# Altium footprint library CPU.PcbLib: 75 footprints (part 2 of 5)
Each footprint in its own frame and in the unit in brackets; x right, y up, seen from the top. Pads: shape width x height; smd on the part's side, far side on the other; paste and mask are expansions set on the pad; w line width, h text height; cw(c..) or ccw(c..) is an arc to the next point about the centre after c.
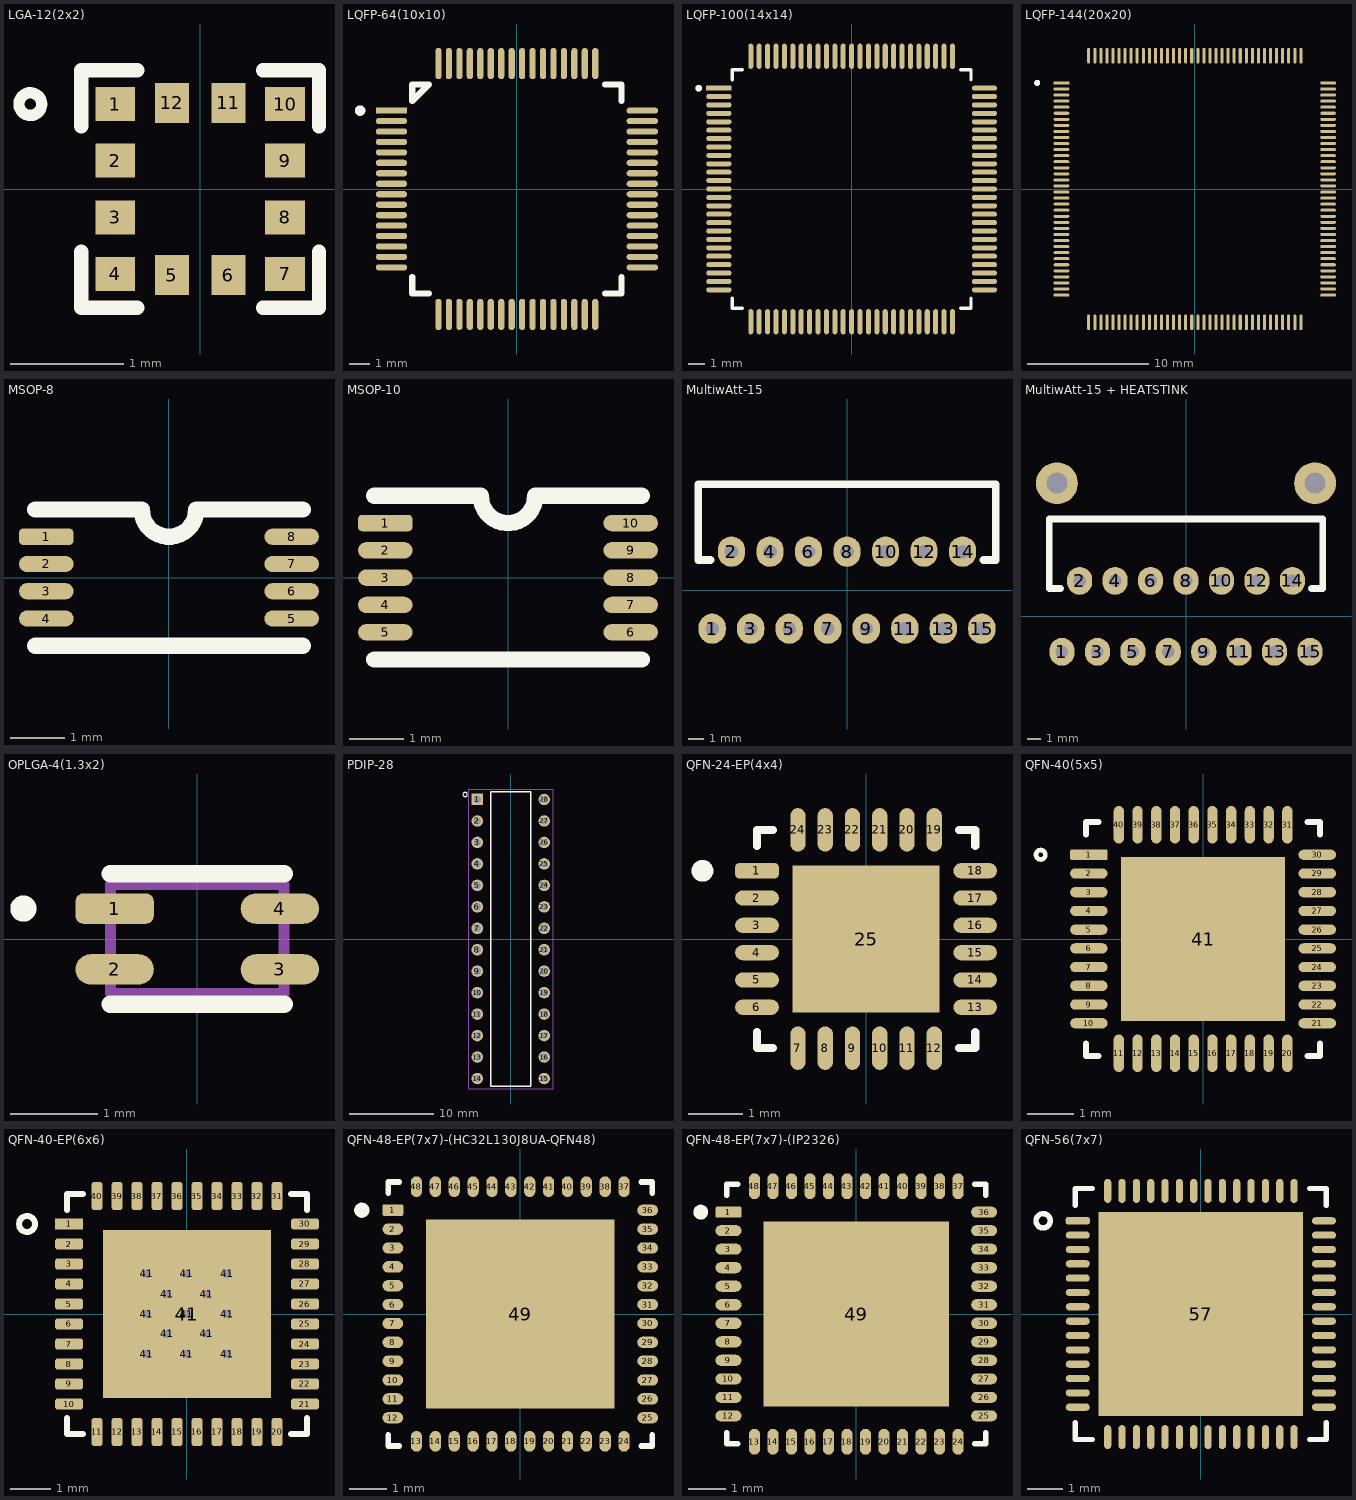
[diagram p1: the footprints below, top view; thin cyan lines are the x and y axes]

## LGA-12(2x2) [mm]
pads (12):
  rect 0.35x0.3 smd: 1(-0.75,0.75) 2(-0.75,0.25) 3(-0.75,-0.25) 4(-0.75,-0.75) 7(0.75,-0.75) 8(0.75,-0.25) 9(0.75,0.25) 10(0.75,0.75)
  rect 0.3x0.35 smd: 5(-0.25,-0.76) 6(0.25,-0.76) 11(0.25,0.76) 12(-0.25,0.76)
Top Overlay:
  circle w0.1: c-1.5,0.75 r0.1
  lines w0.127: -1.05,-0.555 -1.05,-1.05 -0.555,-1.05 ; -1.05,0.555 -1.05,1.05 -0.555,1.05 ; 0.555,-1.05 1.05,-1.05 1.05,-0.555 ; 0.555,1.05 1.05,1.05 1.05,0.555
3D:
  circle w0.1: c-0.75,0.75 r0.05
3D body "LGA-12(2x2).STEP": height 0.7, standoff 0, extent -1,-1 1,1

## LQFP-64(10x10) [mm]
pads (64):
  rrect25% 1.5x0.3 smd: 1(-6,3.75)
  oval 1.5x0.3 smd: 2(-6,3.25) 3(-6,2.75) 4(-6,2.25) 5(-6,1.75) 6(-6,1.25) 7(-6,0.75) 8(-6,0.25) 9(-6,-0.25) 10(-6,-0.75) 11(-6,-1.25) 12(-6,-1.75) 13(-6,-2.25) 14(-6,-2.75) 15(-6,-3.25) 16(-6,-3.75) 33(6,-3.75) 34(6,-3.25) 35(6,-2.75) 36(6,-2.25) 37(6,-1.75) 38(6,-1.25) 39(6,-0.75) 40(6,-0.25) 41(6,0.25) 42(6,0.75) 43(6,1.25) 44(6,1.75) 45(6,2.25) 46(6,2.75) 47(6,3.25) 48(6,3.75)
  oval 0.3x1.5 smd: 17(-3.75,-6) 18(-3.25,-6) 19(-2.75,-6) 20(-2.25,-6) 21(-1.75,-6) 22(-1.25,-6) 23(-0.75,-6) 24(-0.25,-6) 25(0.25,-6) 26(0.75,-6) 27(1.25,-6) 28(1.75,-6) 29(2.25,-6) 30(2.75,-6) 31(3.25,-6) 32(3.75,-6) 49(3.75,6) 50(3.25,6) 51(2.75,6) 52(2.25,6) 53(1.75,6) 54(1.25,6) 55(0.75,6) 56(0.25,6) 57(-0.25,6) 58(-0.75,6) 59(-1.25,6) 60(-1.75,6) 61(-2.25,6) 62(-2.75,6) 63(-3.25,6) 64(-3.75,6)
Top Overlay:
  circle w0.3: c-7.5,3.75 r0.1
  lines w0.3: -5,-4.21 -5,-5 -4.21,-5 ; 4.21,-5 5,-5 5,-4.21 ; 4.21,5 5,5 5,4.21 ; -5,4.21 -5,5 -4.21,5 -5,4.21
3D:
  circle w0.2: c-7.5,3.75 r0.1
3D body "step_temp.STEP": height 1.6, standoff 0, extent -6,-6 6,6

## LQFP-100(14x14) [mm]
pads (100):
  rrect7% 1.5x0.3 smd: 1(-7.9,6)
  oval 1.5x0.3 smd: 2(-7.9,5.5) 3(-7.9,5) 4(-7.9,4.5) 5(-7.9,4) 6(-7.9,3.5) 7(-7.9,3) 8(-7.9,2.5) 9(-7.9,2) 10(-7.9,1.5) 11(-7.9,1) 12(-7.9,0.5) 13(-7.9,0) 14(-7.9,-0.5) 15(-7.9,-1) 16(-7.9,-1.5) 17(-7.9,-2) 18(-7.9,-2.5) 19(-7.9,-3) 20(-7.9,-3.5) 21(-7.9,-4) 22(-7.9,-4.5) 23(-7.9,-5) 24(-7.9,-5.5) 25(-7.9,-6) 51(7.9,-6) 52(7.9,-5.5) 53(7.9,-5) 54(7.9,-4.5) 55(7.9,-4) 56(7.9,-3.5) 57(7.9,-3) 58(7.9,-2.5) 59(7.9,-2) 60(7.9,-1.5) 61(7.9,-1) 62(7.9,-0.5) 63(7.9,0) 64(7.9,0.5) 65(7.9,1) 66(7.9,1.5) 67(7.9,2) 68(7.9,2.5) 69(7.9,3) 70(7.9,3.5) 71(7.9,4) 72(7.9,4.5) 73(7.9,5) 74(7.9,5.5) 75(7.9,6)
  oval 0.3x1.5 smd: 26(-6,-7.9) 27(-5.5,-7.9) 28(-5,-7.9) 29(-4.5,-7.9) 30(-4,-7.9) 31(-3.5,-7.9) 32(-3,-7.9) 33(-2.5,-7.9) 34(-2,-7.9) 35(-1.5,-7.9) 36(-1,-7.9) 37(-0.5,-7.9) 38(0,-7.9) 39(0.5,-7.9) 40(1,-7.9) 41(1.5,-7.9) 42(2,-7.9) 43(2.5,-7.9) 44(3,-7.9) 45(3.5,-7.9) 46(4,-7.9) 47(4.5,-7.9) 48(5,-7.9) 49(5.5,-7.9) 50(6,-7.9) 76(6,7.9) 77(5.5,7.9) 78(5,7.9) 79(4.5,7.9) 80(4,7.9) 81(3.5,7.9) 82(3,7.9) 83(2.5,7.9) 84(2,7.9) 85(1.5,7.9) 86(1,7.9) 87(0.5,7.9) 88(0,7.9) 89(-0.5,7.9) 90(-1,7.9) 91(-1.5,7.9) 92(-2,7.9) 93(-2.5,7.9) 94(-3,7.9) 95(-3.5,7.9) 96(-4,7.9) 97(-4.5,7.9) 98(-5,7.9) 99(-5.5,7.9) 100(-6,7.9)
Top Overlay:
  circle w0.2: c-9.1,6 r0.1
  lines w0.2: -7.1,-6.5 -7.1,-7.1 -6.5,-7.1 ; -7.1,6.5 -7.1,7.1 -6.5,7.1 ; 6.5,-7.1 7.1,-7.1 7.1,-6.5 ; 6.5,7.1 7.1,7.1 7.1,6.5
3D:
  circle w0.2: c-9.1,6 r0.1
3D body "step_temp.STEP": height 1.63, standoff 0.03, extent -8,-8 8,8

## LQFP-144(20x20) [mm]
pads (144):
  rrect25% 1.3x0.25 smd: 1(-11,8.75)
  oval 1.3x0.25 smd: 2(-11,8.25) 3(-11,7.75) 4(-11,7.25) 5(-11,6.75) 6(-11,6.25) 7(-11,5.75) 8(-11,5.25) 9(-11,4.75) 10(-11,4.25) 11(-11,3.75) 12(-11,3.25) 13(-11,2.75) 14(-11,2.25) 15(-11,1.75) 16(-11,1.25) 17(-11,0.75) 18(-11,0.25) 19(-11,-0.25) 20(-11,-0.75) 21(-11,-1.25) 22(-11,-1.75) 23(-11,-2.25) 24(-11,-2.75) 25(-11,-3.25) 26(-11,-3.75) 27(-11,-4.25) 28(-11,-4.75) 29(-11,-5.25) 30(-11,-5.75) 31(-11,-6.25) 32(-11,-6.75) 33(-11,-7.25) 34(-11,-7.75) 35(-11,-8.25) 36(-11,-8.75) 73(11,-8.75) 74(11,-8.25) 75(11,-7.75) 76(11,-7.25) 77(11,-6.75) 78(11,-6.25) 79(11,-5.75) 80(11,-5.25) 81(11,-4.75) 82(11,-4.25) 83(11,-3.75) 84(11,-3.25) 85(11,-2.75) 86(11,-2.25) 87(11,-1.75) 88(11,-1.25) 89(11,-0.75) 90(11,-0.25) 91(11,0.25) 92(11,0.75) 93(11,1.25) 94(11,1.75) 95(11,2.25) 96(11,2.75) 97(11,3.25) 98(11,3.75) 99(11,4.25) 100(11,4.75) 101(11,5.25) 102(11,5.75) 103(11,6.25) 104(11,6.75) 105(11,7.25) 106(11,7.75) 107(11,8.25) 108(11,8.75)
  oval 0.25x1.3 smd: 37(-8.75,-11) 38(-8.25,-11) 39(-7.75,-11) 40(-7.25,-11) 41(-6.75,-11) 42(-6.25,-11) 43(-5.75,-11) 44(-5.25,-11) 45(-4.75,-11) 46(-4.25,-11) 47(-3.75,-11) 48(-3.25,-11) 49(-2.75,-11) 50(-2.25,-11) 51(-1.75,-11) 52(-1.25,-11) 53(-0.75,-11) 54(-0.25,-11) 55(0.25,-11) 56(0.75,-11) 57(1.25,-11) 58(1.75,-11) 59(2.25,-11) 60(2.75,-11) 61(3.25,-11) 62(3.75,-11) 63(4.25,-11) 64(4.75,-11) 65(5.25,-11) 66(5.75,-11) 67(6.25,-11) 68(6.75,-11) 69(7.25,-11) 70(7.75,-11) 71(8.25,-11) 72(8.75,-11) 109(8.75,11) 110(8.25,11) 111(7.75,11) 112(7.25,11) 113(6.75,11) 114(6.25,11) 115(5.75,11) 116(5.25,11) 117(4.75,11) 118(4.25,11) 119(3.75,11) 120(3.25,11) 121(2.75,11) 122(2.25,11) 123(1.75,11) 124(1.25,11) 125(0.75,11) 126(0.25,11) 127(-0.25,11) 128(-0.75,11) 129(-1.25,11) 130(-1.75,11) 131(-2.25,11) 132(-2.75,11) 133(-3.25,11) 134(-3.75,11) 135(-4.25,11) 136(-4.75,11) 137(-5.25,11) 138(-5.75,11) 139(-6.25,11) 140(-6.75,11) 141(-7.25,11) 142(-7.75,11) 143(-8.25,11) 144(-8.75,11)
Top Overlay:
  circle w0.3: c-13,8.75 r0.1
3D body "step_temp.STEP": height 1.6, standoff 0, extent -11,-11 11,11

## MSOP-8 [mm]
pads (8):
  rrect50% 1x0.3 smd mask+0.05: 1(-2.25,0.75)
  oval 1x0.3 smd mask+0.05: 2(-2.25,0.25) 3(-2.25,-0.25) 4(-2.25,-0.75) 5(2.25,-0.75) 6(2.25,-0.25) 7(2.25,0.25) 8(2.25,0.75)
Top Overlay:
  lines w0.3: -2.45,-1.25 2.45,-1.25 ; -2.45,1.25 -0.5,1.25 ccw(c0,1.25) 0.5,1.25 2.45,1.25
3D body "MSOP8-3-0.5mm.STEP": height 1.1, standoff 0, extent -2.45,-1.25 2.45,1.25

## MSOP-10 [mm]
pads (10):
  rrect50% 1x0.3 smd mask+0.05: 1(-2.25,1)
  oval 1x0.3 smd mask+0.05: 2(-2.25,0.5) 3(-2.25,0) 4(-2.25,-0.5) 5(-2.25,-1) 6(2.25,-1) 7(2.25,-0.5) 8(2.25,0) 9(2.25,0.5) 10(2.25,1)
Top Overlay:
  lines w0.3: -2.45,-1.5 2.45,-1.5 ; -2.45,1.5 -0.5,1.5 ccw(c0,1.5) 0.5,1.5 2.45,1.5
3D body "step_temp.STEP": height 1, standoff 0, extent -2.45,-1.5 2.45,1.5

## MultiwAtt-15 [mm]
pads (15):
  oval 1.8x2 hole 0.9 mask+0.2: 1(-8.89,-2.54) 2(-7.62,2.54) 3(-6.35,-2.54) 4(-5.08,2.54) 5(-3.81,-2.54) 6(-2.54,2.54) 7(-1.27,-2.54) 8(0,2.54) 9(1.27,-2.54) 10(2.54,2.54) 11(3.81,-2.54) 12(5.08,2.54) 13(6.35,-2.54) 14(7.62,2.54) 15(8.89,-2.54)
Top Overlay:
  lines w0.5: -9,1.99 -9.8,1.99 -9.8,6.99 9.8,6.99 9.8,1.99 9,1.99
3D body "MULTIWATT-15_Normal_LStrandard_rev1.1.STEP": height 21, standoff -2.02, extent -9.9,-2.935 9.9,6.99

## MultiwAtt-15 + HEATSTINK [mm]
pads (17):
  oval 1.8x2 hole 0.9 mask+0.2: 1(-8.89,-2.54) 2(-7.62,2.54) 3(-6.35,-2.54) 4(-5.08,2.54) 5(-3.81,-2.54) 6(-2.54,2.54) 7(-1.27,-2.54) 8(0,2.54) 9(1.27,-2.54) 10(2.54,2.54) 11(3.81,-2.54) 12(5.08,2.54) 13(6.35,-2.54) 14(7.62,2.54) 15(8.89,-2.54)
  round 3 hole 1.5 mask+0.2: ""(-9.25,9.54) ""(9.25,9.54)
Top Overlay:
  lines w0.5: -9,1.99 -9.8,1.99 -9.8,6.99 9.8,6.99 9.8,1.99 9,1.99
3D body "L298N_Heatsink_axisY.step": height 25.7, standoff -3.3, extent -11.5,-1 11.5,16.02

## OPLGA-4(1.3x2) [mm]
pads (4):
  rrect50% 0.9x0.35 smd: 1(-0.95,0.35)
  oval 0.9x0.35 smd: 2(-0.95,-0.35) 3(0.95,-0.35) 4(0.95,0.35)
Top Overlay:
  circle w0.2: c-2,0.35 r0.05
  lines w0.2: -1,-0.75 1,-0.75 ; -1,0.75 1,0.75
3D:
  lines w0.127: -1,-0.625 1,-0.625 1,0.625 -1,0.625 -1,-0.625
3D body "84593 VEML6040.stp": height 1, standoff 0, extent -1,-0.625 1,0.625

## PDIP-28 [mm]
pads (28):
  rect 1.358x1.358 hole 0.85: 1(-3.96,16.51)
  round 1.358 hole 0.85: 2(-3.96,13.97) 3(-3.96,11.43) 4(-3.96,8.89) 5(-3.96,6.35) 6(-3.96,3.81) 7(-3.96,1.27) 8(-3.96,-1.27) 9(-3.96,-3.81) 10(-3.96,-6.35) 11(-3.96,-8.89) 12(-3.96,-11.43) 13(-3.96,-13.97) 14(-3.96,-16.51) 15(3.96,-16.51) 16(3.96,-13.97) 17(3.96,-11.43) 18(3.96,-8.89) 19(3.96,-6.35) 20(3.96,-3.81) 21(3.96,-1.27) 22(3.96,1.27) 23(3.96,3.81) 24(3.96,6.35) 25(3.96,8.89) 26(3.96,11.43) 27(3.96,13.97) 28(3.96,16.51)
Top Overlay:
  circle w0: c-5.4,17.1 r0.254
  lines w0.152: -2.38,-17.4 2.38,-17.4 2.38,17.4 -2.38,17.4 -2.38,-17.4
Mechanical 15:
  lines w0.05: -5,-17.75 -5,17.75 5,17.75 5,-17.75 -5,-17.75
3D body "ATMEGA328P-PU--3DModel-STEP-56544.STEP": height 4.57, standoff -3.43, extent -3.95,-17.335 3.95,17.336

## QFN-24-EP(4x4) [mm]
height 0.95
pads (25):
  rrect50% 0.8x0.28 smd mask+0.1: 1(-2,1.25)
  oval 0.8x0.28 smd mask+0.1: 2(-2,0.75) 3(-2,0.25) 4(-2,-0.25) 5(-2,-0.75) 6(-2,-1.25) 13(2,-1.25) 14(2,-0.75) 15(2,-0.25) 16(2,0.25) 17(2,0.75) 18(2,1.25)
  oval 0.28x0.8 smd mask+0.1: 7(-1.25,-2) 8(-0.75,-2) 9(-0.25,-2) 10(0.25,-2) 11(0.75,-2) 12(1.25,-2) 19(1.25,2) 20(0.75,2) 21(0.25,2) 22(-0.25,2) 23(-0.75,2) 24(-1.25,2)
  rect 2.7x2.7 smd mask+0.1: 25(0,0)
Top Overlay:
  circle w0.2: c-3,1.25 r0.1
  lines w0.15: -2,-1.705 -2,-2 -1.705,-2 ; -2,1.705 -2,2 -1.705,2 ; 1.705,-2 2,-2 2,-1.705 ; 1.705,2 2,2 2,1.705
3D body "step_temp.STEP": height 0.93, standoff -0.02, extent -2,-2 2,2

## QFN-40(5x5) [mm]
pads (41):
  rrect25% 0.8x0.22 smd: 1(-2.44,1.8)
  oval 0.8x0.22 smd: 2(-2.44,1.4) 3(-2.44,1) 4(-2.44,0.6) 5(-2.44,0.2) 6(-2.44,-0.2) 7(-2.44,-0.6) 8(-2.44,-1) 9(-2.44,-1.4) 10(-2.44,-1.8) 21(2.44,-1.8) 22(2.44,-1.4) 23(2.44,-1) 24(2.44,-0.6) 25(2.44,-0.2) 26(2.44,0.2) 27(2.44,0.6) 28(2.44,1) 29(2.44,1.4) 30(2.44,1.8)
  oval 0.22x0.8 smd: 11(-1.8,-2.44) 12(-1.4,-2.44) 13(-1,-2.44) 14(-0.6,-2.44) 15(-0.2,-2.44) 16(0.2,-2.44) 17(0.6,-2.44) 18(1,-2.44) 19(1.4,-2.44) 20(1.8,-2.44) 31(1.8,2.44) 32(1.4,2.44) 33(1,2.44) 34(0.6,2.44) 35(0.2,2.44) 36(-0.2,2.44) 37(-0.6,2.44) 38(-1,2.44) 39(-1.4,2.44) 40(-1.8,2.44)
  rect 3.5x3.5 smd paste-0.64: 41(0,0)
Top Overlay:
  circle w0.1: c-3.47,1.8 r0.1
  lines w0.127: -2.5,-2.23 -2.5,-2.5 -2.23,-2.5 ; -2.5,2.23 -2.5,2.5 -2.23,2.5 ; 2.23,-2.5 2.5,-2.5 2.5,-2.23 ; 2.23,2.5 2.5,2.5 2.5,2.23
3D body "step_temp.STEP": height 0.8, standoff 0, extent -2.5,-2.5 2.5,2.5

## QFN-40-EP(6x6) [mm]
pads (54):
  rect 0.7x0.28 smd mask+0.15: 1(-2.95,2.25)
  rrect50% 0.7x0.28 smd mask+0.15: 2(-2.95,1.75) 3(-2.95,1.25) 4(-2.95,0.75) 5(-2.95,0.25) 6(-2.95,-0.25) 7(-2.95,-0.75) 8(-2.95,-1.25) 9(-2.95,-1.75) 10(-2.95,-2.25) 21(2.95,-2.25) 22(2.95,-1.75) 23(2.95,-1.25) 24(2.95,-0.75) 25(2.95,-0.25) 26(2.95,0.25) 27(2.95,0.75) 28(2.95,1.25) 29(2.95,1.75) 30(2.95,2.25)
  rrect50% 0.28x0.7 smd mask+0.15: 11(-2.25,-2.95) 12(-1.75,-2.95) 13(-1.25,-2.95) 14(-0.75,-2.95) 15(-0.25,-2.95) 16(0.25,-2.95) 17(0.75,-2.95) 18(1.25,-2.95) 19(1.75,-2.95) 20(2.25,-2.95) 31(2.25,2.95) 32(1.75,2.95) 33(1.25,2.95) 34(0.75,2.95) 35(0.25,2.95) 36(-0.25,2.95) 37(-0.75,2.95) 38(-1.25,2.95) 39(-1.75,2.95) 40(-2.25,2.95)
  round 0.4 hole 0.2: 41(-1,-1) 41(-1,0) 41(-1,1) 41(-0.5,-0.5) 41(-0.5,0.5) 41(0,-1) 41(0,0) 41(0,1) 41(0.5,-0.5) 41(0.5,0.5) 41(1,-1) 41(1,0) 41(1,1)
  rect 4.2x4.2 smd mask+0.15: 41(0,0)
Top Overlay:
  circle w0.15: c-4,2.25 r0.2
  lines w0.15: -3,-2.6 -3,-3 -2.6,-3 ; -3,2.6 -3,3 -2.6,3 ; 2.6,-3 3,-3 3,-2.6 ; 2.6,3 3,3 3,2.6
3D body "QFN-40 (6x6x0.9).step": height 0.92, standoff 0, extent -3,-3 3,3

## QFN-48-EP(7x7)-(HC32L130J8UA-QFN48) [mm]
pads (49):
  rrect25% 0.55x0.3 smd: 1(-3.375,2.75)
  oval 0.55x0.3 smd: 2(-3.375,2.25) 3(-3.375,1.75) 4(-3.375,1.25) 5(-3.375,0.75) 6(-3.375,0.25) 7(-3.375,-0.25) 8(-3.375,-0.75) 9(-3.375,-1.25) 10(-3.375,-1.75) 11(-3.375,-2.25) 12(-3.375,-2.75) 25(3.375,-2.75) 26(3.375,-2.25) 27(3.375,-1.75) 28(3.375,-1.25) 29(3.375,-0.75) 30(3.375,-0.25) 31(3.375,0.25) 32(3.375,0.75) 33(3.375,1.25) 34(3.375,1.75) 35(3.375,2.25) 36(3.375,2.75)
  oval 0.3x0.55 smd: 13(-2.75,-3.375) 14(-2.25,-3.375) 15(-1.75,-3.375) 16(-1.25,-3.375) 17(-0.75,-3.375) 18(-0.25,-3.375) 19(0.25,-3.375) 20(0.75,-3.375) 21(1.25,-3.375) 22(1.75,-3.375) 23(2.25,-3.375) 24(2.75,-3.375) 37(2.75,3.375) 38(2.25,3.375) 39(1.75,3.375) 40(1.25,3.375) 41(0.75,3.375) 42(0.25,3.375) 43(-0.25,3.375) 44(-0.75,3.375) 45(-1.25,3.375) 46(-1.75,3.375) 47(-2.25,3.375) 48(-2.75,3.375)
  rect 5x5 smd paste-4: 49(0,0)
Top Overlay:
  circle w0.2: c-4.2,2.75 r0.1
  lines w0.15: -3.5,-3.205 -3.5,-3.5 -3.205,-3.5 ; -3.5,3.205 -3.5,3.5 -3.205,3.5 ; 3.205,-3.5 3.5,-3.5 3.5,-3.205 ; 3.205,3.5 3.5,3.5 3.5,3.205
Top Paste:
  region: -0.5,0.5 -2,0.5 -2,2 -0.5,2
  region: 2,0.5 0.5,0.5 0.5,2 2,2
  region: -0.5,-2 -2,-2 -2,-0.5 -0.5,-0.5
  region: 2,-2 0.5,-2 0.5,-0.5 2,-0.5
3D body "STM32F411CEU6--3DModel-STEP-56544.STEP": height 0.6, standoff 0, extent -3.5,-3.5 3.5,3.5

## QFN-48-EP(7x7)-(IP2326) [mm]
pads (49):
  rrect25% 0.7x0.3 smd: 1(-3.45,2.75)
  oval 0.7x0.3 smd: 2(-3.45,2.25) 3(-3.45,1.75) 4(-3.45,1.25) 5(-3.45,0.75) 6(-3.45,0.25) 7(-3.45,-0.25) 8(-3.45,-0.75) 9(-3.45,-1.25) 10(-3.45,-1.75) 11(-3.45,-2.25) 12(-3.45,-2.75) 25(3.45,-2.75) 26(3.45,-2.25) 27(3.45,-1.75) 28(3.45,-1.25) 29(3.45,-0.75) 30(3.45,-0.25) 31(3.45,0.25) 32(3.45,0.75) 33(3.45,1.25) 34(3.45,1.75) 35(3.45,2.25) 36(3.45,2.75)
  oval 0.3x0.7 smd: 13(-2.75,-3.45) 14(-2.25,-3.45) 15(-1.75,-3.45) 16(-1.25,-3.45) 17(-0.75,-3.45) 18(-0.25,-3.45) 19(0.25,-3.45) 20(0.75,-3.45) 21(1.25,-3.45) 22(1.75,-3.45) 23(2.25,-3.45) 24(2.75,-3.45) 37(2.75,3.45) 38(2.25,3.45) 39(1.75,3.45) 40(1.25,3.45) 41(0.75,3.45) 42(0.25,3.45) 43(-0.25,3.45) 44(-0.75,3.45) 45(-1.25,3.45) 46(-1.75,3.45) 47(-2.25,3.45) 48(-2.75,3.45)
  rect 5x5 smd paste-4: 49(0,0)
Top Overlay:
  circle w0.2: c-4.2,2.75 r0.1
  lines w0.15: -3.5,-3.205 -3.5,-3.5 -3.205,-3.5 ; -3.5,3.205 -3.5,3.5 -3.205,3.5 ; 3.205,-3.5 3.5,-3.5 3.5,-3.205 ; 3.205,3.5 3.5,3.5 3.5,3.205
Top Paste:
  region: 2,-2 0.5,-2 0.5,-0.5 2,-0.5
  region: -0.5,-2 -2,-2 -2,-0.5 -0.5,-0.5
  region: 2,0.5 0.5,0.5 0.5,2 2,2
  region: -0.5,0.5 -2,0.5 -2,2 -0.5,2
3D body "STM32F411CEU6--3DModel-STEP-56544.STEP": height 0.6, standoff 0, extent -3.5,-3.5 3.5,3.5

## QFN-56(7x7) [mm]
height 0.9
pads (57):
  rrect50% 0.67x0.2 smd mask+0.05: 1(-3.435,2.6)
  oval 0.67x0.2 smd mask+0.05: 2(-3.435,2.2) 3(-3.435,1.8) 4(-3.435,1.4) 5(-3.435,1) 6(-3.435,0.6) 7(-3.435,0.2) 8(-3.435,-0.2) 9(-3.435,-0.6) 10(-3.435,-1) 11(-3.435,-1.4) 12(-3.435,-1.8) 13(-3.435,-2.2) 14(-3.435,-2.6) 29(3.435,-2.6) 30(3.435,-2.2) 31(3.435,-1.8) 32(3.435,-1.4) 33(3.435,-1) 34(3.435,-0.6) 35(3.435,-0.2) 36(3.435,0.2) 37(3.435,0.6) 38(3.435,1) 39(3.435,1.4) 40(3.435,1.8) 41(3.435,2.2) 42(3.435,2.6)
  oval 0.2x0.67 smd mask+0.05: 15(-2.6,-3.435) 16(-2.2,-3.435) 17(-1.8,-3.435) 18(-1.4,-3.435) 19(-1,-3.435) 20(-0.6,-3.435) 21(-0.2,-3.435) 22(0.2,-3.435) 23(0.6,-3.435) 24(1,-3.435) 25(1.4,-3.435) 26(1.8,-3.435) 27(2.2,-3.435) 28(2.6,-3.435) 43(2.6,3.435) 44(2.2,3.435) 45(1.8,3.435) 46(1.4,3.435) 47(1,3.435) 48(0.6,3.435) 49(0.2,3.435) 50(-0.2,3.435) 51(-0.6,3.435) 52(-1,3.435) 53(-1.4,3.435) 54(-1.8,3.435) 55(-2.2,3.435) 56(-2.6,3.435)
  rect 5.7x5.7 smd paste-4 mask+0.05: 57(0,0)
Top Overlay:
  circle w0.15: c-4.4,2.6 r0.2
  lines w0.15: -3.5,-3.03 -3.5,-3.5 -3.03,-3.5 ; -3.5,3.03 -3.5,3.5 -3.03,3.5 ; 3.03,-3.5 3.5,-3.5 3.5,-3.03 ; 3.03,3.5 3.5,3.5 3.5,3.03
Top Paste:
  region: -0.525,0.525 -2.325,0.525 -2.325,2.325 -0.525,2.325
  region: 2.325,0.525 0.525,0.525 0.525,2.325 2.325,2.325
  region: 2.325,-2.325 0.525,-2.325 0.525,-0.525 2.325,-0.525
  region: -0.525,-2.325 -2.325,-2.325 -2.325,-0.525 -0.525,-0.525
3D body "step_temp.STEP": height 0.9, standoff 0, extent -3.5,-3.5 3.5,3.5